# EAGLE library part 79109-08 (library con-molex-milli-grid)
RECEPTACAL
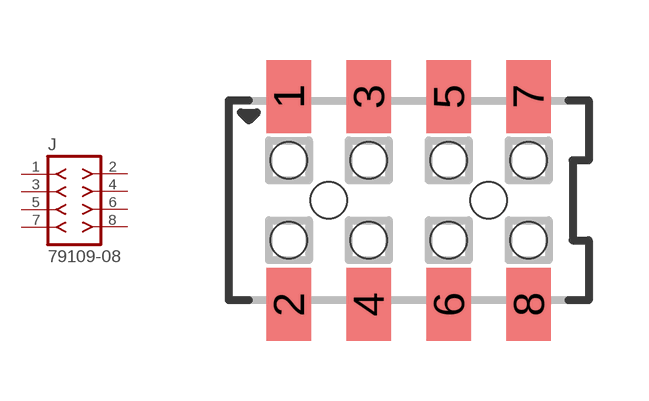
[diagram p161: symbol with the pads of 79109-08; footprint 79109-08]

Designator prefix J

## 79109-08  [79109-08]
1  1  pas
2  2  pas
3  3  pas
4  4  pas
5  5  pas
6  6  pas
7  7  pas
8  8  pas

## Footprint 79109-08 (pad centres in mm)
RECEPTACAL SMD Dual Row, Vertical, Pass-Thru
smd 1.12 x 1.83: 1 -3,2.6; 2 -3,-2.6; 3 -1,2.6; 4 -1,-2.6; 5 1,2.6; 6 1,-2.6; 7 3,2.6; 8 3,-2.6
hole 0.914 at -2,0
hole 0.914 at -3,1
hole 0.914 at -3,-1
hole 0.914 at -1,-1
hole 0.914 at -1,1
hole 0.914 at 1,-1
hole 0.914 at 1,1
hole 0.914 at 2,0
hole 0.914 at 3,1
hole 0.914 at 3,-1